# Altium footprint library PcbLib1.PcbLib: 10 footprints
Each footprint in its own frame and in the unit in brackets; x right, y up, seen from the top. Pads: shape width x height; smd on the part's side, far side on the other; paste and mask are expansions set on the pad; w line width, h text height; cw(c..) or ccw(c..) is an arc to the next point about the centre after c.
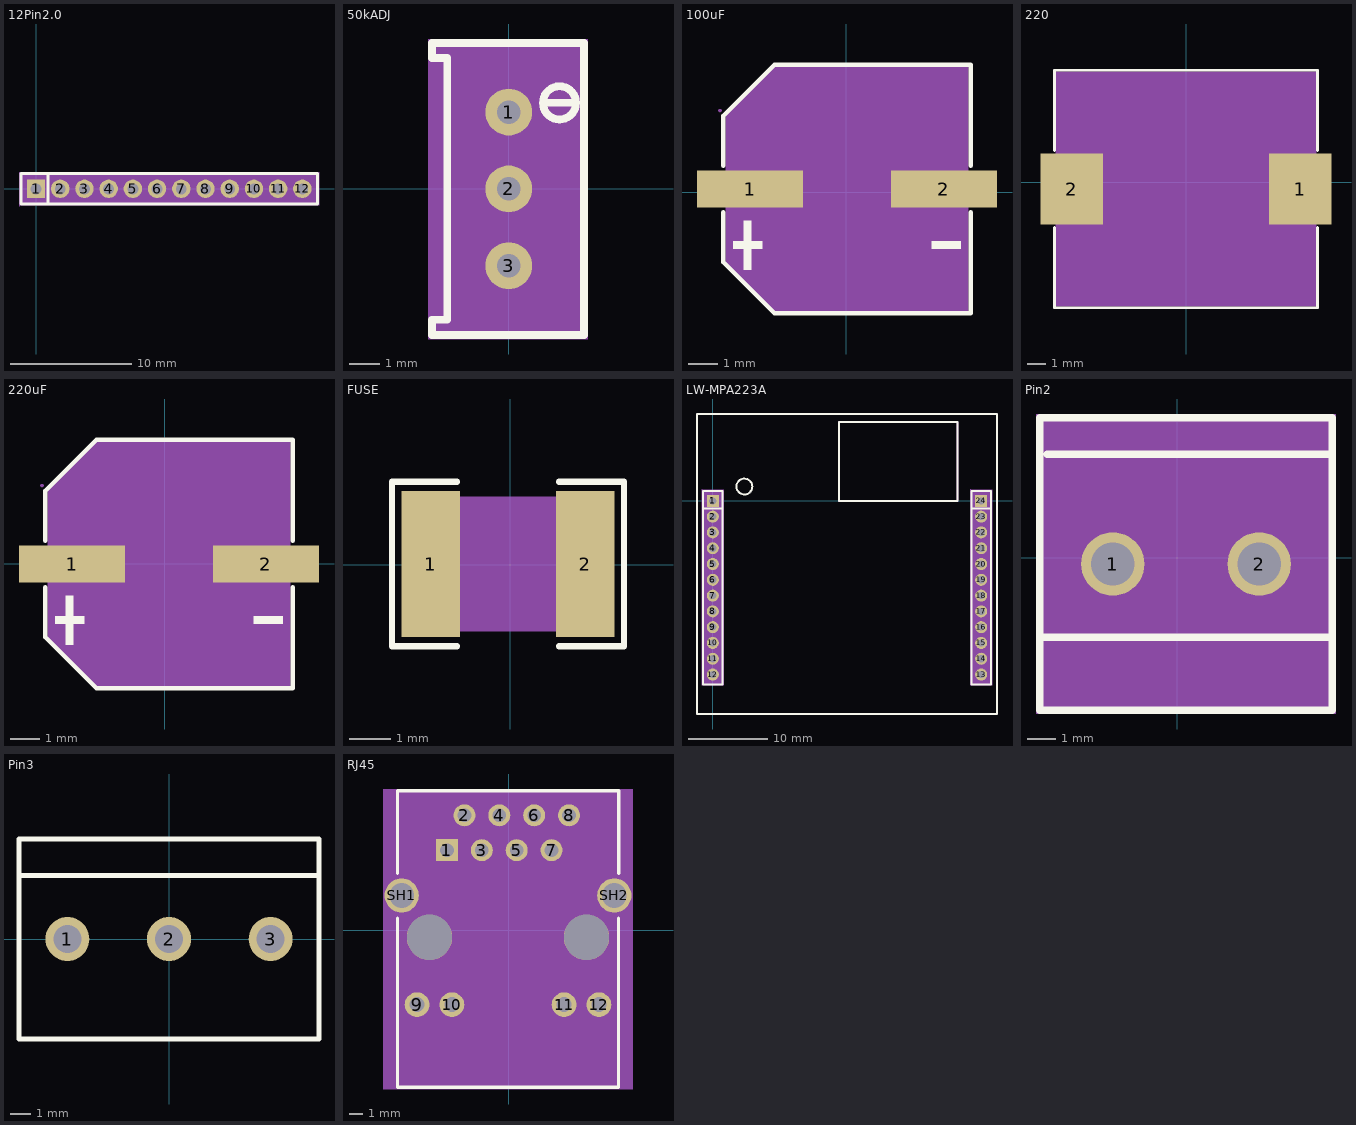
[diagram p0: the footprints below, top view; thin cyan lines are the x and y axes]

## 12Pin2.0 [mil]
pads (12):
  rect 60x60 hole 35.43: 1(0,0)
  round 60 hole 35.43: 2(78.8,0) 3(157.5,0) 4(236.3,0) 5(315,0) 6(393.7,0) 7(472.5,0) 8(551.2,0) 9(630,0) 10(708.7,0) 11(787.4,0) 12(866.2,0)
Top Overlay:
  lines w10: 39.36,-49.21 39.36,49.21 ; -49.18,-49.21 -49.18,49.21 591,49.2 915.4,49.2 915.38,-49.21 -49.18,-49.21
Mechanical 4:
  region: -54.2,54.21 920.4,54.21 920.4,-54.21 -54.2,-54.21
Mechanical 5:
  circle w13.78: c866.2,0 r6.89
  circle w13.78: c787.4,0 r6.89
  circle w13.78: c708.7,0 r6.89
  circle w13.78: c630,0 r6.89
  circle w13.78: c551.2,0 r6.89
  circle w13.78: c472.5,0 r6.89
  circle w13.78: c393.7,0 r6.89
  circle w13.78: c315,0 r6.89
  circle w13.78: c236.3,0 r6.89
  circle w13.78: c157.5,0 r6.89
  circle w13.78: c78.8,0 r6.89
  circle w13.78: c0,0 r6.89
Mechanical 6:
  circle w2.36: c-54.2,-54.21 r1.18
Mechanical 15:
  lines w0.1: 431.51,17.55 433.51,19.55

## 50kADJ [mil]
pads (3):
  round 60 hole 30: 1(0,98.42) 2(0,0) 3(0,-98.42)
Top Overlay:
  lines w10: 50,110.39 65,110.39 ; 86.2,109.99 cw(c64.99,110.19) 86.2,110.4 ; 96.46,-187.22 -96.46,-187.22 -98.42,-187.22 -98.42,-167.52 -78.74,-167.52 -78.74,167.52 -98.42,167.52 -98.42,187.01 -96.46,187.01 96.46,187.01 96.46,-187.01 ; 65,110.39 80,110.39 65,110.39
Mechanical 4:
  region: -103.42,192.01 101.46,192.01 101.46,-192.22 -103.42,-192.22
Mechanical 5:
  region: -30,30 30,30 30,-30 -30,-30
  region: -30,128.43 30,128.43 30,68.42 -30,68.42
  region: -30,-68.42 30,-68.42 30,-128.43 -30,-128.43
Mechanical 15:
  lines w0.1: -1.98,14.34 0.02,16.34

## 100uF [mm]
pads (2):
  rect 3.61x1.26 smd: 1(-3.275,0.111) 2(3.315,0.111)
Top Overlay:
  region: 3.896,-1.673 3.896,-1.922 2.9,-1.922 2.9,-1.673
  region: -3.856,-1.673 -3.856,-1.922 -2.86,-1.922 -2.86,-1.673
  region: -3.483,-0.968 -3.483,-2.628 -3.234,-2.628 -3.234,-0.968
  lines w0.152: -4.181,-0.671 -4.181,-2.379 -2.445,-4.115 4.221,-4.115 4.221,-0.671 ; -4.181,0.894 -4.181,2.601 -2.445,4.338 4.221,4.338 4.221,0.894
Mechanical 4:
  region: 4.145,4.261 4.145,-4.039 -2.445,-4.039 -4.105,-2.379 -4.105,2.601 -2.445,4.261
Mechanical 5:
  region: 4.52,0.561 4.52,-0.339 1.57,-0.339 1.57,0.561
  region: -4.48,0.561 -4.48,-0.339 -1.53,-0.339 -1.53,0.561
Mechanical 6:
  circle w0.06: c-4.298,2.778 r0.03
Mechanical 15:
  region: 3.896,0.236 3.896,-0.013 2.9,-0.013 2.9,0.236
  region: -3.856,0.236 -3.856,-0.013 -2.86,-0.013 -2.86,0.236
  region: -3.483,0.941 -3.483,-0.719 -3.234,-0.719 -3.234,0.941

## 220 [mm]
pads (2):
  rect 3.424x3.92 smd: 1(6.267,-0.383) 2(-6.289,-0.383)
Top Overlay:
  lines w0.152: -7.237,-2.495 -7.237,-6.909 7.215,-6.909 7.215,-2.495 ; -7.237,1.73 -7.237,6.144 7.215,6.144 7.215,1.73
Mechanical 4:
  region: -7.161,-6.833 -7.161,6.067 7.139,6.067 7.139,-6.833
Mechanical 5:
  region: -7.161,-2.133 -7.161,1.367 -4.661,1.367 -4.661,-2.133
  region: 7.139,-2.133 7.139,1.367 4.639,1.367 4.639,-2.133
Mechanical 6:
  circle w0.06: c-7.161,-6.833 r0.03
Mechanical 15:
  lines w0.003: -0.036,0.006 0.014,0.056

## 220uF [mm]
pads (2):
  rect 3.61x1.26 smd: 1(-3.148,-0.016) 2(3.442,-0.016)
Top Overlay:
  region: 4.023,-1.8 4.023,-2.049 3.027,-2.049 3.027,-1.8
  region: -3.729,-1.8 -3.729,-2.049 -2.733,-2.049 -2.733,-1.8
  region: -3.356,-1.095 -3.356,-2.755 -3.107,-2.755 -3.107,-1.095
  lines w0.152: -4.054,-0.798 -4.054,-2.506 -2.318,-4.242 4.348,-4.242 4.348,-0.798 ; -4.054,0.767 -4.054,2.474 -2.318,4.211 4.348,4.211 4.348,0.767
Mechanical 4:
  region: 4.272,4.134 4.272,-4.166 -2.318,-4.166 -3.978,-2.506 -3.978,2.474 -2.318,4.134
Mechanical 5:
  region: 4.647,0.434 4.647,-0.466 1.697,-0.466 1.697,0.434
  region: -4.353,0.434 -4.353,-0.466 -1.403,-0.466 -1.403,0.434
Mechanical 6:
  circle w0.06: c-4.171,2.651 r0.03
Mechanical 15:
  region: 4.023,0.109 4.023,-0.14 3.027,-0.14 3.027,0.109
  region: -3.729,0.109 -3.729,-0.14 -2.733,-0.14 -2.733,0.109
  region: -3.356,0.814 -3.356,-0.846 -3.107,-0.846 -3.107,0.814

## FUSE [mil]
pads (2):
  rect 55.38x137.76 smd: 1(-75.31,0.88) 2(70.62,0.88)
Top Overlay:
  lines w6: -50.62,-77 -112,-77 -112,78.76 -50.62,78.76 ; 45.93,-77 107.31,-77 107.31,78.76 45.93,78.76
Top Paste:
  region: 42.93,-64.06 42.93,-26.48 46.87,-22.54 57.82,-22.54 61.76,-18.6 61.76,20.36 57.82,24.3 46.87,24.3 42.93,28.24 42.93,65.83 46.87,69.76 94.38,69.76 98.31,65.83 98.31,-64.06 94.38,-68 46.87,-68
  region: -47.62,-64.06 -47.62,-26.48 -51.56,-22.54 -62.51,-22.54 -66.45,-18.6 -66.45,20.36 -62.51,24.3 -51.56,24.3 -47.62,28.24 -47.62,65.83 -51.56,69.76 -99.06,69.76 -103,65.83 -103,-64.06 -99.06,-68 -51.56,-68
Mechanical 4:
  region: -91.91,-62.9 -91.91,64.66 87.22,64.66 87.22,-62.9
Mechanical 5:
  region: -91.91,-62.9 -91.91,64.66 -62.38,64.66 -62.38,-62.9
  region: 87.22,-62.9 87.22,64.66 57.7,64.66 57.7,-62.9
Mechanical 6:
  circle w2.36: c-91.91,-62.9 r1.18
Mechanical 15:
  lines w0.1: -3.34,15.69 -1.34,17.69

## LW-MPA223A [mil]
pads (24):
  rect 60x60 hole 35.43: 1(0,0) 24(1338.58,0)
  round 60 hole 35.43: 2(0,-78.8) 3(0,-157.5) 4(0,-236.3) 5(0,-315) 6(0,-393.7) 7(0,-472.5) 8(0,-551.2) 9(0,-630) 10(0,-708.7) 11(0,-787.4) 12(0,-866.2) 13(1338.58,-866.2) 14(1338.58,-787.4) 15(1338.58,-708.7) 16(1338.58,-630) 17(1338.58,-551.2) 18(1338.58,-472.5) 19(1338.58,-393.7) 20(1338.58,-315) 21(1338.58,-236.3) 22(1338.58,-157.5) 23(1338.58,-78.8)
Top Overlay:
  circle w10: c157.48,71.26 r39.37
  lines w10: -49.21,-39.36 49.21,-39.36 ; 1289.37,-39.36 1387.79,-39.36 ; -78.74,-1062.99 -78.74,433.07 1417.32,433.07 1417.32,-1062.99 1377.95,-1062.99 0,-1062.99 -78.74,-1062.99 ; -49.21,-915.38 -49.21,49.18 49.21,49.18 49.2,-591 49.2,-915.4 -49.21,-915.38 ; 629.92,0 1220.47,0 1220.47,393.7 629.92,393.7 629.92,0 ; 1289.37,-915.38 1387.79,-915.38 1387.78,-591 1387.78,49.2 1289.37,49.18 1289.37,-915.38
Mechanical 1:
  lines w10: 629.92,0 629.92,393.7 1220.47,393.7 1220.47,0 629.92,0
Mechanical 4:
  region: 54.21,54.2 54.21,-920.4 -54.21,-920.4 -54.21,54.2
  region: 1392.79,54.2 1392.79,-920.4 1284.37,-920.4 1284.37,54.2
Mechanical 5:
  circle w13.78: c0,-866.2 r6.89
  circle w13.78: c0,-787.4 r6.89
  circle w13.78: c0,-708.7 r6.89
  circle w13.78: c0,-630 r6.89
  circle w13.78: c0,-551.2 r6.89
  circle w13.78: c0,-472.5 r6.89
  circle w13.78: c0,-393.7 r6.89
  circle w13.78: c0,-315 r6.89
  circle w13.78: c0,-236.3 r6.89
  circle w13.78: c0,-157.5 r6.89
  circle w13.78: c0,-78.8 r6.89
  circle w13.78: c0,0 r6.89
  circle w13.78: c1338.58,0 r6.89
  circle w13.78: c1338.58,-78.8 r6.89
  circle w13.78: c1338.58,-157.5 r6.89
  circle w13.78: c1338.58,-236.3 r6.89
  circle w13.78: c1338.58,-315 r6.89
  circle w13.78: c1338.58,-393.7 r6.89
  circle w13.78: c1338.58,-472.5 r6.89
  circle w13.78: c1338.58,-551.2 r6.89
  circle w13.78: c1338.58,-630 r6.89
  circle w13.78: c1338.58,-708.7 r6.89
  circle w13.78: c1338.58,-787.4 r6.89
  circle w13.78: c1338.58,-866.2 r6.89
Mechanical 6:
  circle w2.36: c-54.21,54.2 r1.18
  circle w2.36: c1284.37,54.2 r1.18
Mechanical 15:
  lines w0.1: 17.55,-431.51 19.55,-433.51 ; 1356.14,-431.51 1358.14,-433.51

## Pin2 [mm]
pads (2):
  round 2.2 hole 1.5: 1(-2.244,-0.211) 2(2.836,-0.211)
Top Overlay:
  lines w0.254: -4.784,-2.751 5.376,-2.751 ; -4.53,3.599 5.376,3.599 ; -4.784,-5.291 -4.784,4.869 5.376,4.869 5.376,-5.291 -4.784,-5.291
Mechanical 4:
  region: -4.911,4.996 5.503,4.996 5.503,-5.418 -4.911,-5.418
Mechanical 5:
  region: -3.344,0.889 -1.144,0.889 -1.144,-1.311 -3.344,-1.311
  region: 1.736,0.889 3.936,0.889 3.936,-1.311 1.736,-1.311
Mechanical 15:
  lines w0.003: 0.059,0.218 0.11,0.269

## Pin3 [mm]
pads (3):
  round 2.2 hole 1.4: 1(-5.08,0) 2(0,0) 3(5.08,0)
Top Overlay:
  lines w0.254: -7.493,3.175 7.366,3.175 ; -7.5,-5 7.5,-5 7.5,5 -7.5,5 -7.5,-5
Mechanical 15:
  lines w0.003: 0.266,0.364 0.317,0.415

## RJ45 [mm]
pads (16):
  rect 1.6x1.6 hole 1: 1(-4.496,5.84)
  round 1.6 hole 1: 2(-3.226,8.38) 3(-1.956,5.84) 4(-0.686,8.38) 5(0.584,5.84) 6(1.854,8.38) 7(3.124,5.84) 8(4.394,8.38)
  round 1.8 hole 1.1: 9(-6.676,-5.41) 10(-4.136,-5.41) 11(4.034,-5.41) 12(6.574,-5.41)
  round 2.5 hole 1.8: SH1(-7.796,2.54) SH2(7.694,2.54)
  round 3.3 hole 3.3 unplated: ""(-5.766,-0.51) ""(5.664,-0.51)
Top Overlay:
  lines w0.254: -8.101,0.87 -8.101,-11.43 7.999,-11.43 7.999,0.87 ; -8.101,4.17 -8.101,10.17 7.999,10.17 8,4.17
Mechanical 4:
  circle w1.65: c-5.766,-0.51 r0.825
  circle w1.65: c5.664,-0.51 r0.825
  region: -9.144,10.297 9.042,10.297 9.042,-11.557 -9.144,-11.557
Mechanical 5:
  circle w0.127: c-5.766,-0.51 r1.65
  circle w0.127: c5.664,-0.51 r1.65
  region: -5.296,6.64 -3.696,6.64 -3.696,5.04 -5.296,5.04
  region: -4.026,9.18 -2.426,9.18 -2.426,7.58 -4.026,7.58
  region: -2.756,6.64 -1.156,6.64 -1.156,5.04 -2.756,5.04
  region: -1.486,9.18 0.114,9.18 0.114,7.58 -1.486,7.58
  region: -0.216,6.64 1.384,6.64 1.384,5.04 -0.216,5.04
  region: 1.054,9.18 2.654,9.18 2.654,7.58 1.054,7.58
  region: 2.324,6.64 3.924,6.64 3.924,5.04 2.324,5.04
  region: 3.594,9.18 5.194,9.18 5.194,7.58 3.594,7.58
  region: -7.576,-4.51 -5.776,-4.51 -5.776,-6.31 -7.576,-6.31
  region: -5.036,-4.51 -3.236,-4.51 -3.236,-6.31 -5.036,-6.31
  region: 3.134,-4.51 4.934,-4.51 4.934,-6.31 3.134,-6.31
  region: 5.674,-4.51 7.474,-4.51 7.474,-6.31 5.674,-6.31
  region: -9.046,3.79 -6.546,3.79 -6.546,1.29 -9.046,1.29
  region: 6.444,3.79 8.944,3.79 8.944,1.29 6.444,1.29
Mechanical 15:
  lines w0.003: -0.076,0.215 -0.025,0.265